# EAGLE library part ARDUINO_MINI (library SKAARHOJ)
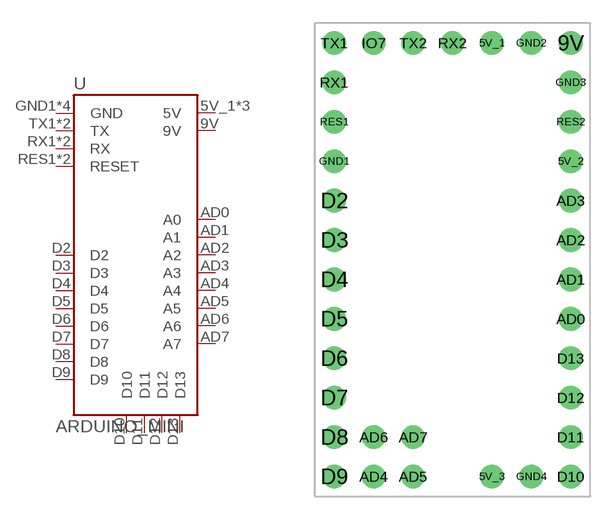
[diagram p35: symbol with the pads of ARDUINO_MINI; footprint ARDUINO_MINI]

Designator prefix -

## ARDUINO_MINI  [ARDUINO_MINI]
5V_1  5V  pwr
5V_2  5V  pwr
5V_3  5V  pwr
9V  9V  pwr
AD0  A0
AD1  A1
AD2  A2
AD3  A3
AD4  A4
AD5  A5
AD6  A6
AD7  A7
D2  D2
D3  D3
D4  D4
D5  D5
D6  D6
D7  D7
D8  D8
D9  D9
D10  D10
D11  D11
D12  D12
D13  D13
GND1  GND  pwr
GND2  GND  pwr
GND3  GND  pwr
GND4  GND  pwr
RES1  RESET
RES2  RESET
RX1  RX
RX2  RX
TX1  TX
TX2  TX

## Footprint ARDUINO_MINI (pad centres in mm)
drill 1.016: 5V_1 2.54,12.7; 5V_2 7.62,5.08; 5V_3 2.54,-15.24; 9V 7.62,12.7; AD0 7.62,-5.08; AD1 7.62,-2.54; AD2 7.62,0; AD3 7.62,2.54; AD4 -5.08,-15.24; AD5 -2.54,-15.24; AD6 -5.08,-12.7; AD7 -2.54,-12.7; D2 -7.62,2.54; D3 -7.62,0; D4 -7.62,-2.54; D5 -7.62,-5.08; D6 -7.62,-7.62; D7 -7.62,-10.16; D8 -7.62,-12.7; D9 -7.62,-15.24; D10 7.62,-15.24; D11 7.62,-12.7; D12 7.62,-10.16; D13 7.62,-7.62; GND1 -7.62,5.08; GND2 5.08,12.7; GND3 7.62,10.16; GND4 5.08,-15.24; IO7 -5.08,12.7; RES1 -7.62,7.62; RES2 7.62,7.62; RX1 -7.62,10.16; RX2 0,12.7; TX1 -7.62,12.7; TX2 -2.54,12.7